# EAGLE library part MQ-SOCKET (library template)
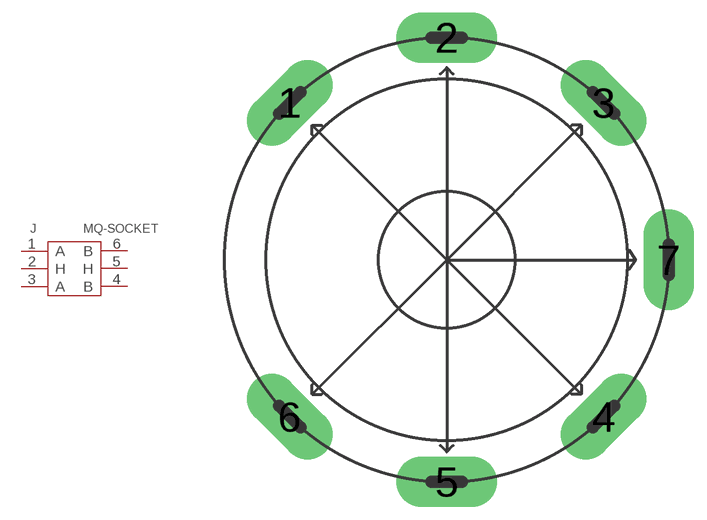
[diagram p27: symbol with the pads of 6P-D17.6X9.8H; footprint 6P-D17.6X9.8H]

Designator prefix J

## MQ-SOCKET  [6P-D17.6X9.8H]
1  A
2  H
3  A
4  B
5  H
6  B

## Footprint 6P-D17.6X9.8H (pad centres in mm)
drill 1.3 pad 2 long: 1 -6.223,6.223; 2 0,8.8; 3 6.223,6.223; 4 6.223,-6.223; 5 0,-8.8; 6 -6.223,-6.223; 7 8.8,0